# Altium footprint library DrumPad.PcbLib: 21 footprints (part 1 of 2)
Each footprint in its own frame and in the unit in brackets; x right, y up, seen from the top. Pads: shape width x height; smd on the part's side, far side on the other; paste and mask are expansions set on the pad; w line width, h text height; cw(c..) or ccw(c..) is an arc to the next point about the centre after c.
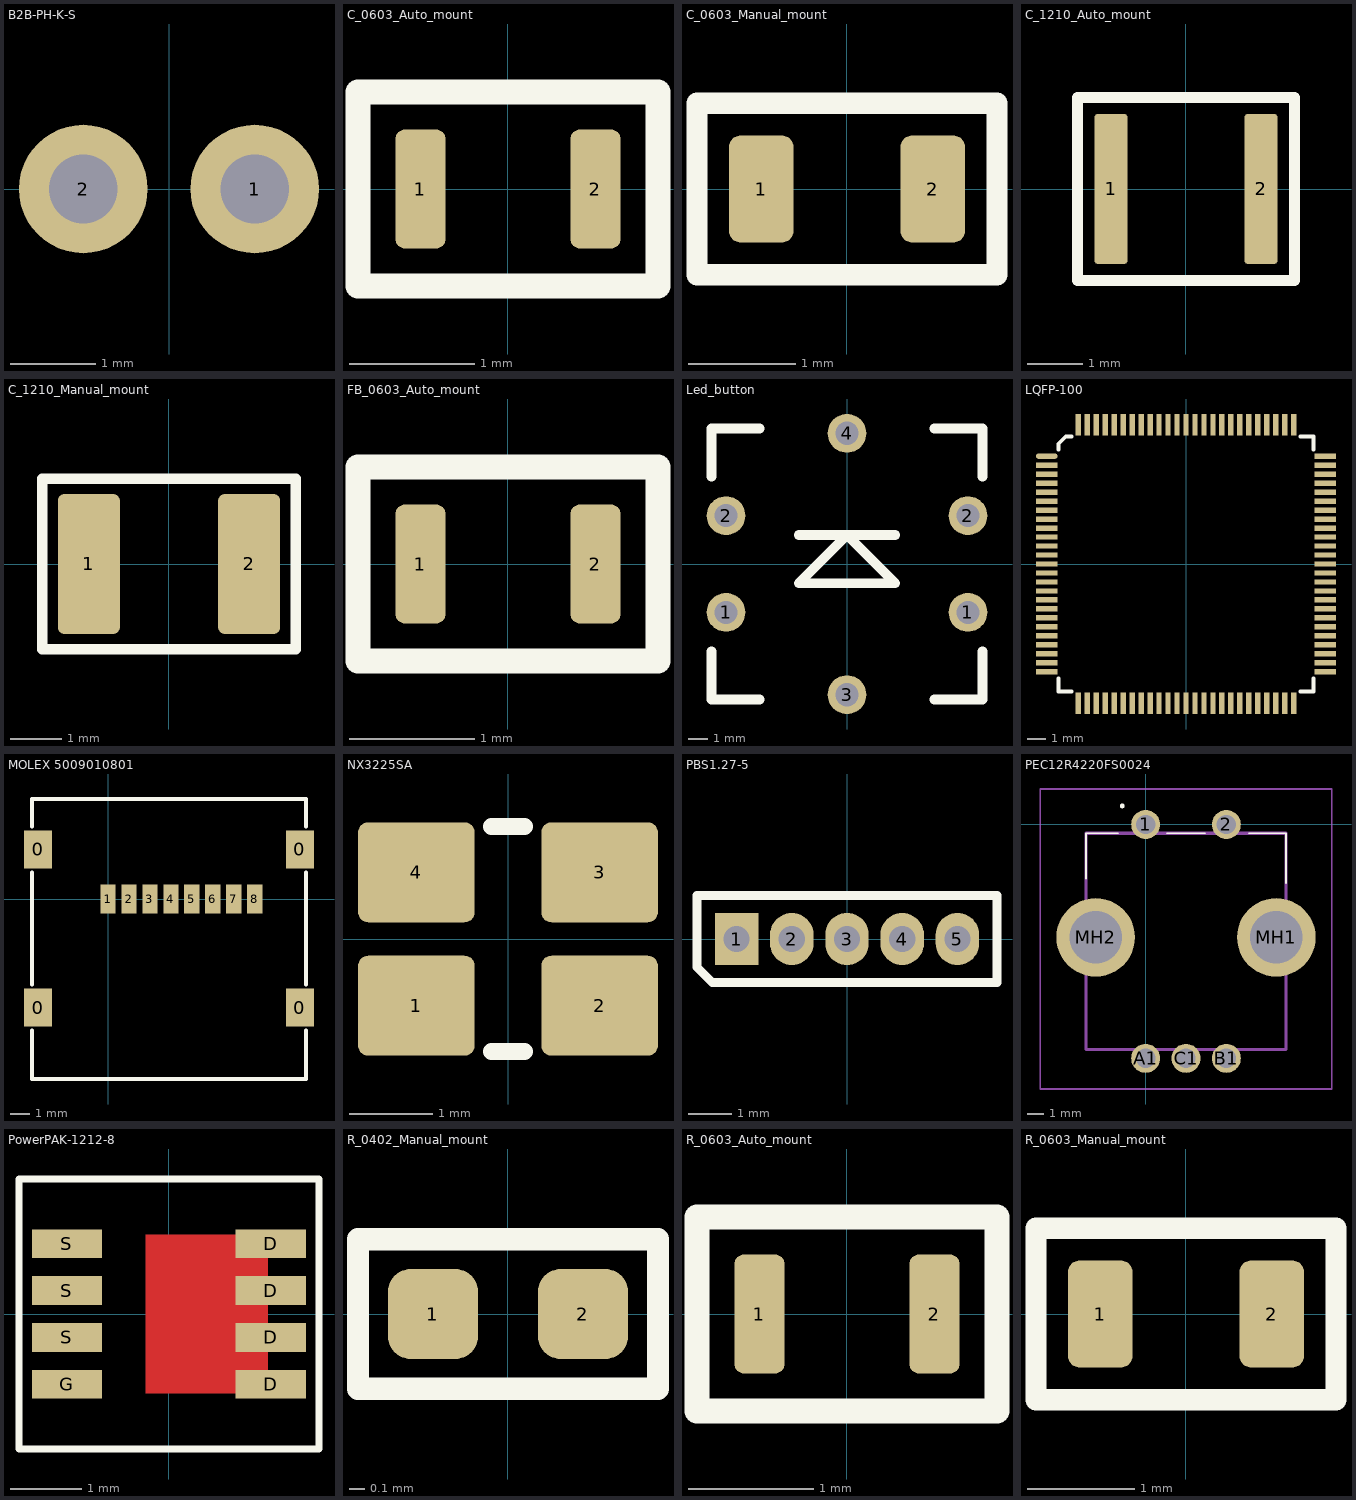
[diagram p0: the footprints below, top view; thin cyan lines are the x and y axes]

## B2B-PH-K-S [mm]
pads (2):
  round 1.5 hole 0.8 unplated: 1(1,0) 2(-1,0)
3D body "B2B-PH-K-S.STEP": height 6.2, standoff -3.2, extent -2.95,-1.7 2.95,2.8

## C_0603_Auto_mount [mm]
pads (2):
  rrect35% 0.4x0.95 smd: 1(-0.7,0) 2(0.7,0)
Top Overlay:
  lines w0.2: -1.2,-0.775 1.2,-0.775 1.2,0.775 -1.2,0.775 -1.2,-0.775
3D body: height 0.9, standoff 0, extent -0.8,-0.425 -0.5,0.425
3D body: height 0.9, standoff 0, extent -0.5,-0.425 0.5,0.425
3D body: height 0.9, standoff 0, extent 0.5,-0.425 0.8,0.425

## C_0603_Manual_mount [mm]
pads (2):
  rrect35% 0.6x1 smd: 1(-0.8,0) 2(0.8,0)
Top Overlay:
  lines w0.2: -1.4,-0.8 -1.4,0.8 1.4,0.8 1.4,-0.8 -1.4,-0.8
3D body: height 0.9, standoff 0, extent -0.8,-0.425 -0.5,0.425
3D body: height 0.9, standoff 0, extent -0.5,-0.425 0.5,0.425
3D body: height 0.9, standoff 0, extent 0.5,-0.425 0.8,0.425

## C_1210_Auto_mount [mm]
pads (2):
  rrect20% 0.6x2.7 smd: 1(-1.35,0) 2(1.35,0)
Top Overlay:
  lines w0.2: -1.95,-1.65 -1.95,1.65 1.95,1.65 1.95,-1.65 -1.95,-1.65
3D body: height 2.5, standoff 0, extent 1.05,-1.3 1.55,1.3
3D body: height 2.5, standoff 0, extent -1.05,-1.3 1.05,1.3
3D body: height 2.5, standoff 0, extent -1.55,-1.3 -1.05,1.3

## C_1210_Manual_mount [mm]
pads (2):
  rrect20% 1.2x2.7 smd: 1(-1.55,0) 2(1.55,0)
Top Overlay:
  lines w0.2: -2.45,-1.65 2.45,-1.65 2.45,1.65 -2.45,1.65 -2.45,-1.65
3D body: height 2.5, standoff 0, extent -1.55,-1.3 -1.05,1.3
3D body: height 2.5, standoff 0, extent -1.05,-1.3 1.05,1.3
3D body: height 2.5, standoff 0, extent 1.05,-1.3 1.55,1.3

## FB_0603_Auto_mount [mm]
pads (2):
  rrect35% 0.4x0.95 smd: 1(-0.7,0) 2(0.7,0)
Top Overlay:
  lines w0.2: -1.2,-0.775 1.2,-0.775 1.2,0.775 -1.2,0.775 -1.2,-0.775
3D body: height 0.9, standoff 0, extent 0.5,-0.425 0.8,0.425
3D body: height 0.9, standoff 0, extent -0.5,-0.425 0.5,0.425
3D body: height 0.9, standoff 0, extent -0.8,-0.425 -0.5,0.425

## Led_button [mm]
pads (6):
  round 2 hole 1.2: 1(-6.25,-2.5) 1(6.25,-2.5) 2(-6.25,2.5) 2(6.25,2.5) 3(0,-6.75) 4(0,6.75)
Top Overlay:
  lines w0.5: -7,-4.5 -7,-7 -4.5,-7 ; -7,4.5 -7,7 -4.5,7 ; -2.5,1.5 0,1.5 ; 2.5,1.5 0,1.5 ; 4.5,-7 7,-7 7,-4.5 ; 4.5,7 7,7 7,4.5 ; 0,1.5 2.5,-1 -2.5,-1 0,1.5
3D body "Button.stp": height 7.1, standoff -3.23, extent -6.662,-8 6.662,8

## LQFP-100 [mm]
pads (100):
  oval 1.2x0.3 smd paste-0.025 mask+0.05: 1(-7.75,6)
  rect 1.2x0.3 smd paste-0.025 mask+0.05: 2(-7.75,5.5) 3(-7.75,5) 4(-7.75,4.5) 5(-7.75,4) 6(-7.75,3.5) 7(-7.75,3) 8(-7.75,2.5) 9(-7.75,2) 10(-7.75,1.5) 11(-7.75,1) 12(-7.75,0.5) 13(-7.75,0) 14(-7.75,-0.5) 15(-7.75,-1) 16(-7.75,-1.5) 17(-7.75,-2) 18(-7.75,-2.5) 19(-7.75,-3) 20(-7.75,-3.5) 21(-7.75,-4) 22(-7.75,-4.5) 23(-7.75,-5) 24(-7.75,-5.5) 25(-7.75,-6) 51(7.75,-6) 52(7.75,-5.5) 53(7.75,-5) 54(7.75,-4.5) 55(7.75,-4) 56(7.75,-3.5) 57(7.75,-3) 58(7.75,-2.5) 59(7.75,-2) 60(7.75,-1.5) 61(7.75,-1) 62(7.75,-0.5) 63(7.75,0) 64(7.75,0.5) 65(7.75,1) 66(7.75,1.5) 67(7.75,2) 68(7.75,2.5) 69(7.75,3) 70(7.75,3.5) 71(7.75,4) 72(7.75,4.5) 73(7.75,5) 74(7.75,5.5) 75(7.75,6)
  rect 0.3x1.2 smd paste-0.025 mask+0.05: 26(-6,-7.75) 27(-5.5,-7.75) 28(-5,-7.75) 29(-4.5,-7.75) 30(-4,-7.75) 31(-3.5,-7.75) 32(-3,-7.75) 33(-2.5,-7.75) 34(-2,-7.75) 35(-1.5,-7.75) 36(-1,-7.75) 37(-0.5,-7.75) 38(0,-7.75) 39(0.5,-7.75) 40(1,-7.75) 41(1.5,-7.75) 42(2,-7.75) 43(2.5,-7.75) 44(3,-7.75) 45(3.5,-7.75) 46(4,-7.75) 47(4.5,-7.75) 48(5,-7.75) 49(5.5,-7.75) 50(6,-7.75) 76(6,7.75) 77(5.5,7.75) 78(5,7.75) 79(4.5,7.75) 80(4,7.75) 81(3.5,7.75) 82(3,7.75) 83(2.5,7.75) 84(2,7.75) 85(1.5,7.75) 86(1,7.75) 87(0.5,7.75) 88(0,7.75) 89(-0.5,7.75) 90(-1,7.75) 91(-1.5,7.75) 92(-2,7.75) 93(-2.5,7.75) 94(-3,7.75) 95(-3.5,7.75) 96(-4,7.75) 97(-4.5,7.75) 98(-5,7.75) 99(-5.5,7.75) 100(-6,7.75)
Top Overlay:
  lines w0.2: -7.1,-6.35 -7.1,-7.1 -6.35,-7.1 ; -7.1,6.35 -7.1,6.7 -6.7,7.1 -6.35,7.1 ; 6.35,-7.1 7.1,-7.1 7.1,-6.35 ; 6.35,7.1 7.1,7.1 7.1,6.35
3D body "LQFP-100.stp": height 1.5, standoff 0, extent -8,-8 8,8

## MOLEX 5009010801 [mm]
pads (12):
  rect 1.45x2 smd: 0(-3.675,-5.7) 0(-3.675,2.6) 0(10.075,-5.7) 0(10.075,2.6)
  rect 0.8x1.5 smd: 1(0,0) 2(1.1,0) 3(2.2,0) 4(3.3,0) 5(4.4,0) 6(5.5,0) 7(6.6,0) 8(7.7,0)
Top Overlay:
  lines w0.2: -4,-6.9 -4,-9.45 10.4,-9.45 10.4,-6.9 ; -4,-4.5 -4,1.4 ; -4,3.8 -4,5.25 1.625,5.25 10.4,5.25 10.4,3.8 ; 10.4,-4.5 10.4,1.4
3D body "5009010801.stp": height 1.93, standoff -0.02, extent -4.1,-9.35 10.5,5.15

## NX3225SA [mm]
pads (4):
  rrect20% 1.4x1.2 smd: 1(-1.1,-0.8) 2(1.1,-0.8) 3(1.1,0.8) 4(-1.1,0.8)
Top Overlay:
  lines w0.2: -0.2,-1.35 0.2,-1.35 ; -0.2,1.35 0.2,1.35
3D body "NX3225SA.stp": height 0.55, standoff 0, extent -1.605,-1.255 1.605,1.255

## PBS1.27-5 [mm]
pads (5):
  rect 1x1.2 hole 0.6: 1(-2.54,0)
  oval 1x1.2 hole 0.6: 2(-1.27,0) 3(0,0) 4(1.27,0) 5(2.54,0)
Top Overlay:
  lines w0.2: -3.45,-0.65 -3.45,1 3.45,1 3.45,-1 -3.1,-1 -3.45,-0.65
Bottom Overlay:
  lines w0.2: -3.45,-0.65 -3.1,-1 3.45,-1 3.45,1 -3.45,1 -3.45,-0.65
3D body "PBS1.27-5.stp": height 4.4, standoff -2.3, extent -3.335,-0.9 3.335,0.9

## PEC12R4220FS0024 [mm]
pads (7):
  round 1.8 hole 1.2: 1(0,0) 2(5,0) A1(0,-14.5) B1(5,-14.5) C1(2.5,-14.5)
  round 4.875 hole 3.25: MH1(8.1,-7) MH2(-3.1,-7)
Top Overlay:
  lines w0.1: -3.7,-3.35 -3.7,-0.55 -1.7,-0.55 ; 1.3,-0.55 3.7,-0.55 ; 6.4,-0.55 8.7,-0.55 8.7,-3.65
  lines w0.2: -1.5,1.15 cw(c-1.45,1.15) -1.4,1.15 cw(c-1.45,1.15) -1.5,1.15
Mechanical 15:
  lines w0.2: -3.7,-13.95 8.7,-13.95 8.7,-0.55 -3.7,-0.55 -3.7,-13.95
Mechanical 20:
  lines w0.1: -6.537,-16.4 11.537,-16.4 11.537,2.2 -6.537,2.2 -6.537,-16.4
3D body "pec12r-4220f-s0024.stp": height 20, standoff -3.5, extent -4.5,-14.6 9.5,0.15

## PowerPAK-1212-8 [mm]
pads (8):
  rect 0.99x0.405 smd: D(1.435,-0.99) D(1.435,-0.33) D(1.435,0.33) D(1.435,0.99) G(-1.435,-0.99) S(-1.435,-0.33) S(-1.435,0.33) S(-1.435,0.99)
Top Layer:
  rectangle: -0.325,-1.117 1.4,1.117
Top Overlay:
  lines w0.1: -2.11,-1.9 -2.11,1.9 2.115,1.9 2.115,-1.9 -2.11,-1.9
3D body: height 0.13, standoff 0, extent -0.025,-1.8 0.325,1.8
3D body: height 1.12, standoff 0, extent -1.625,-1.625 1.625,1.625

## R_0402_Manual_mount [mm]
pads (2):
  rrect50% 0.6x0.6 smd: 1(-0.5,0) 2(0.5,0)
Top Overlay:
  lines w0.15: -1,-0.5 1,-0.5 1,0.5 -1,0.5 -1,-0.5
3D body: height 0.35, standoff 0, extent 0.3,-0.25 0.5,0.25
3D body: height 0.35, standoff 0, extent -0.5,-0.25 -0.3,0.25
3D body: height 0.35, standoff 0, extent -0.3,-0.25 0.3,0.25

## R_0603_Auto_mount [mm]
pads (2):
  rrect35% 0.4x0.95 smd: 1(-0.7,0) 2(0.7,0)
Top Overlay:
  lines w0.2: -1.2,-0.775 -1.2,0.775 1.2,0.775 1.2,-0.775 -1.2,-0.775
3D body: height 0.45, standoff 0, extent 0.5,-0.425 0.8,0.425
3D body: height 0.45, standoff 0, extent -0.5,-0.425 0.5,0.425
3D body: height 0.45, standoff 0, extent -0.8,-0.425 -0.5,0.425

## R_0603_Manual_mount [mm]
pads (2):
  rrect35% 0.6x1 smd: 1(-0.8,0) 2(0.8,0)
Top Overlay:
  lines w0.2: -1.4,-0.8 -1.4,0.8 1.4,0.8 1.4,-0.8 -1.4,-0.8
3D body: height 0.45, standoff 0, extent 0.5,-0.425 0.8,0.425
3D body: height 0.45, standoff 0, extent -0.5,-0.425 0.5,0.425
3D body: height 0.45, standoff 0, extent -0.8,-0.425 -0.5,0.425